# EAGLE library part ADM1087 (library SparkFun-Retired)
Power supply sequencer
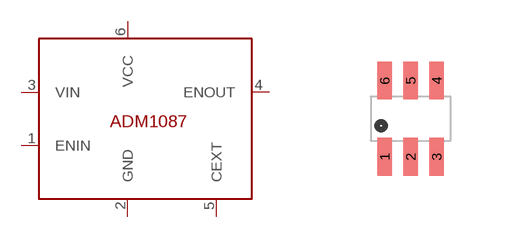
[diagram p126: symbol with the pads of SC-70; footprint SC-70]

Designator prefix -

## ADM1087SC-70  [SC-70]
1  ENIN
2  GND
3  VIN
4  ENOUT
5  CEXT
6  VCC

## Footprint SC-70 (pad centres in mm)
smd 0.36 x 0.95: 1 -0.65,-0.95; 2 0,-0.95; 3 0.65,-0.95; 4 0.65,0.95; 5 0,0.95; 6 -0.65,0.95